# Altium footprint library DAQ.PcbLib: 37 footprints (part 1 of 3)
Each footprint in its own frame and in the unit in brackets; x right, y up, seen from the top. Pads: shape width x height; smd on the part's side, far side on the other; paste and mask are expansions set on the pad; w line width, h text height; cw(c..) or ccw(c..) is an arc to the next point about the centre after c.
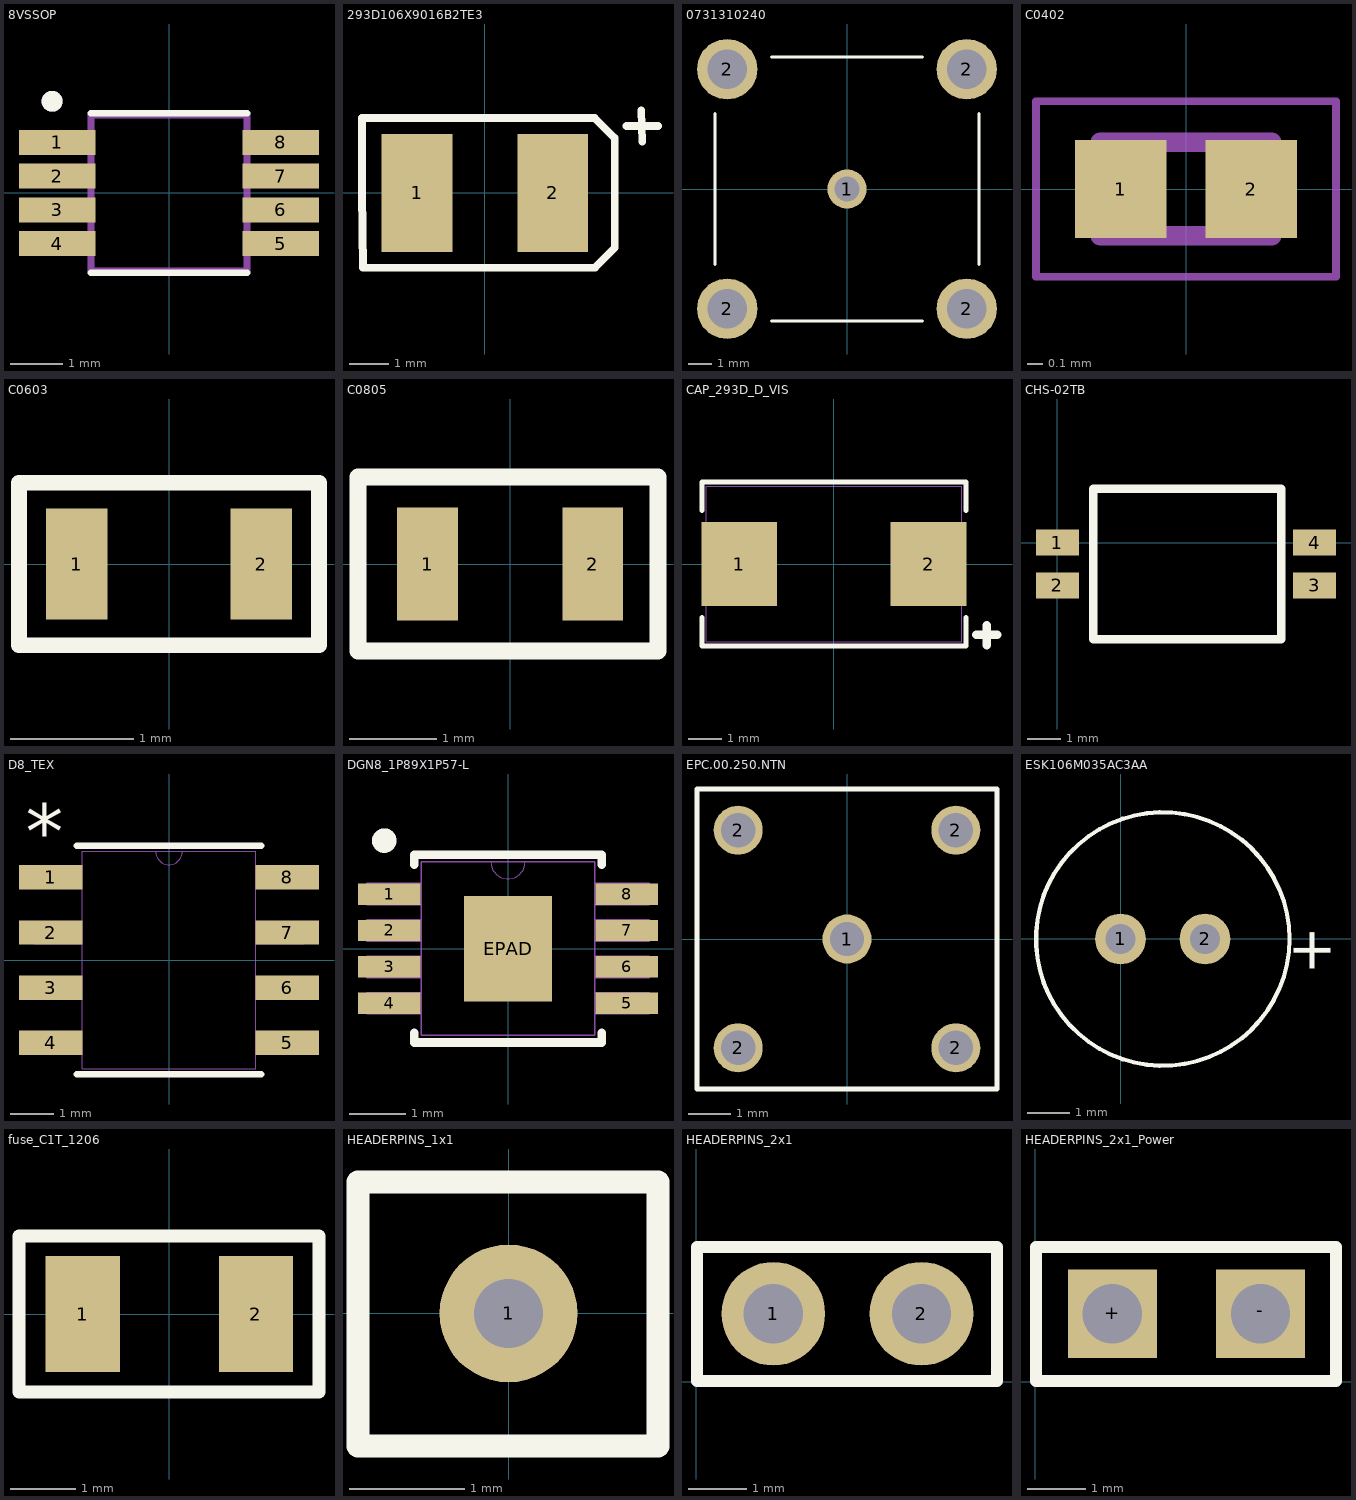
[diagram p0: the footprints below, top view; thin cyan lines are the x and y axes]

## 8VSSOP [mm]
pads (8):
  rect 1.47x0.48 smd: 1(-2.15,0.975) 2(-2.15,0.325) 3(-2.15,-0.325) 4(-2.15,-0.975) 5(2.15,-0.975) 6(2.15,-0.325) 7(2.15,0.325) 8(2.15,0.975)
Top Overlay:
  circle w0.2: c-2.25,1.763 r0.1
  lines w0.127: -1.5,-1.535 1.5,-1.535 ; -1.5,1.535 1.5,1.535
Mechanical 4:
  circle w0.2: c-2.25,1.763 r0.1
  circle w0.2: c-2.25,1.763 r0.1
  lines w0.127: -1.5,-1.5 -1.5,1.5 ; -1.5,-1.5 1.5,-1.5 ; -1.5,-1.5 -1.5,1.5 ; -1.5,-1.5 1.5,-1.5 ; -1.5,1.5 1.5,1.5 ; -1.5,1.5 1.5,1.5 ; 1.5,-1.5 1.5,1.5 ; 1.5,-1.5 1.5,1.5

## 293D106X9016B2TE3 [mm]
pads (2):
  rect 1.8x3 smd: 1(-1.725,0) 2(1.725,0)
Top Overlay:
  lines w0.2: -3.125,1.9 -3.125,0 -3.1,-1.9 2.8,-1.9 ; -3.1,1.9 2.792,1.9 3.3,1.392 3.3,-1.392 2.792,-1.9 ; 3.6,1.7 4.4,1.7 ; 3.975,2.1 4,1.3
3D body "CAP_3_5X2_8X1_9.step": height 2.13, standoff 0, extent -1.842,-1.499 1.842,1.499

## 0731310240 [mil] "CONN BNC RCPT R/A 50 OHM PCB"
pads (5):
  round 65 hole 41: 1(0,0)
  round 100 hole 65: 2(-198,-198) 2(-198,198) 2(198,-198) 2(198,198)
Top Overlay:
  lines w5: -218,-125 -218,125 ; -125,-218 125,-218 ; -125,218 125,218 ; 218,-125 218,125
3D body "731310240.stp": height 733.64, standoff -156.98, extent -225,-218.11 659.25,218.11

## C0402 [mm]
pads (2):
  rect 0.59x0.63 smd: 1(-0.42,0) 2(0.42,0)
Mechanical 4:
  lines w0.127: -0.55,-0.3 -0.55,0.3 ; -0.55,-0.3 0.55,-0.3 ; -0.55,-0.3 -0.55,0.3 ; -0.55,-0.3 0.55,-0.3 ; -0.55,0.3 0.55,0.3 ; -0.55,0.3 0.55,0.3 ; 0.55,-0.3 0.55,0.3 ; 0.55,-0.3 0.55,0.3
Mechanical 16:
  lines w0.05: -0.965,-0.565 -0.965,0.565 0.965,0.565 0.965,-0.565 -0.965,-0.565
3D body "C0402.STEP": height 0.51, standoff 0.01, extent -0.5,-0.281 0.5,0.279

## C0603 [mm]
pads (2):
  rect 0.5x0.9 smd: 1(-0.75,0) 2(0.75,0)
Top Overlay:
  lines w0.127: -1.219,-0.66 1.219,-0.66 1.219,0.66 -1.219,0.66 -1.219,-0.028 -1.219,-0.66
3D body "C0603.step": height 0.81, standoff 0.01, extent -0.8,-0.4 0.8,0.4

## C0805 [mm]
pads (2):
  rect 0.7x1.3 smd: 1(-0.95,0) 2(0.95,0)
Top Overlay:
  lines w0.2: -1.75,-1 -1.75,0 -1.75,1 1.7,1 1.7,-1 -1.75,-1
3D body "C0805.step": height 0.61, standoff 0.01, extent -1,-0.625 1,0.625

## CAP_293D_D_VIS [mil]
pads (2):
  rect 89x99 smd paste+0 mask+0: 1(-111,0) 2(111,0)
Top Overlay:
  lines w6: -154.5,-62.6 -154.5,-96 154.5,-96 154.5,-62.6 ; -154.5,62.6 -154.5,96 154.5,96 154.5,62.6
  lines w10: 167,-83 191,-83 ; 179,-95 179,-72
Mechanical 13:
  lines w1: -149.5,-91 149.5,-91 149.5,91 -149.5,91 -149.5,-91
3D body "CAP_293D_D_VIS.step": height 122.01, standoff 0, extent -149.49,-90.99 149.49,90.99

## CHS-02TB [mm]
pads (4):
  rect 1.27x0.76 smd: 1(0,0) 2(0,-1.27) 3(7.62,-1.27) 4(7.62,0)
Top Overlay:
  lines w0.254: 1.067,-2.87 1.067,1.6 5.093,1.6 6.629,1.6 6.629,-2.87 1.067,-2.87
3D body "CHS-02TB.stp": height 2.53, standoff 0.01, extent -0.241,-2.685 7.759,1.415

## D8_TEX [mil]
pads (8):
  rect 57.5x22 smd paste+0 mask+0: 1(-107.25,75) 2(-107.25,25) 3(-107.25,-25) 4(-107.25,-75) 5(107.25,-75) 6(107.25,-25) 7(107.25,25) 8(107.25,75)
Top Overlay:
  lines w6: -83.5,-103.5 83.5,-103.5 ; -83.5,103.5 83.5,103.5
  text "*" at -129.75,92 h50
Mechanical 13:
  lines w0: -12,98.5 ccw(c0,98.5) 12,98.5
  lines w1: -122,-85 -78.5,-85 -78.5,-65 -122,-65 -122,-85 ; -122,-35 -78.5,-35 -78.5,-15 -122,-15 -122,-35 ; -122,15 -78.5,15 -78.5,35 -122,35 -122,15 ; -122,65 -78.5,65 -78.5,85 -122,85 -122,65 ; -78.5,-98.5 -78.5,98.5 78.5,98.5 78.5,-98.5 -78.5,-98.5 ; 78.5,-85 122,-85 122,-65 78.5,-65 78.5,-85 ; 78.5,-35 122,-35 122,-15 78.5,-15 78.5,-35 ; 78.5,15 122,15 122,35 78.5,35 78.5,15 ; 78.5,65 122,65 122,85 78.5,85 78.5,65
  text "*" at -76,45.5 h50
3D body "D0008A.stp": height 64, standoff 0, extent -118.56,-96.5 118.56,96.5

## DGN8_1P89X1P57-L [mil]
pads (9):
  rect 44x15 smd paste+0 mask+0: 1(-83.5,38.39) 2(-83.5,12.8) 3(-83.5,-12.8) 4(-83.5,-38.39) 5(83.5,-38.39) 6(83.5,-12.8) 7(83.5,12.8) 8(83.5,38.39)
  rect 61.81x74.41 smd paste-36.7 mask+0: EPAD(0,0)
Top Overlay:
  circle w10: c-87,76 r3.61
  lines w6: -66,-58.99 -66,-66 66,-66 66,-58.99 ; -66,58.99 -66,66 66,66 66,58.99
Top Paste:
  region: 30.91,37.2 -30.91,37.2 -30.91,-37.2 30.91,-37.2
Mechanical 13:
  lines w0: -12,61 ccw(c0,61) 12,61
  lines w1: -99.5,-45.89 -99.5,-30.89 -61,-30.89 -61,-45.89 -99.5,-45.89 ; -99.5,-20.3 -99.5,-5.3 -61,-5.3 -61,-20.3 -99.5,-20.3 ; -99.5,5.3 -99.5,20.3 -61,20.3 -61,5.3 -99.5,5.3 ; -99.5,30.89 -99.5,45.89 -61,45.89 -61,30.89 -99.5,30.89 ; -61,-61 61,-61 61,61 -61,61 -61,-61 ; 61,-45.89 61,-30.89 99.5,-30.89 99.5,-45.89 61,-45.89 ; 61,-20.3 61,-5.3 99.5,-5.3 99.5,-20.3 61,-20.3 ; 61,5.3 61,20.3 99.5,20.3 99.5,5.3 61,5.3 ; 61,30.89 61,45.89 99.5,45.89 99.5,30.89 61,30.89
  text "*" at -58.5,8 h50
3D body: height 10, standoff 0, extent 0,0 10,10
3D body "DGN8_1P89X1P57-M.step": height 45.62, standoff 0.5, extent -98.49,-60.97 100.49,61

## EPC.00.250.NTN [mil] "NIM-CAMAC CD/N 549 Connector Receptacle, Female Socket 50Ohm Through Hole Solder"
pads (5):
  round 45 hole 31.5: 1(0,0) 2(-100,-100) 2(-100,100) 2(100,-100) 2(100,100)
Top Overlay:
  lines w5: -137.8,-137.8 -137.8,0 -137.8,137.8 137.8,137.8 137.8,-137.8 -137.8,-137.8
3D body "EPA.00.250.NTN.STEP": height 551.68, standoff -117.61, extent -137.8,-137.79 137.79,137.8

## ESK106M035AC3AA [mm]
pads (2):
  round 1.2 hole 0.7: 1(0,0) 2(2,0)
Top Overlay:
  circle w0.1: c1,0 r3
  text "+" at 4.1,0.3 h1
3D body "ESK106M035AC3AA.step": height 12.52, standoff -19.99, extent -1.75,-2.766 3.75,2.75

## fuse_C1T_1206 [mm]
pads (2):
  rect 1.14x1.78 smd: 1(-1.33,0) 2(1.33,0)
Top Overlay:
  lines w0.2: -2.31,-1.2 2.3,-1.2 2.3,1.2 -2.31,1.2 -2.31,0 -2.31,-1.2
3D body "F1206.step": height 1.11, standoff 0.01, extent -1.51,-0.801 1.51,0.801

## HEADERPINS_1x1 [mm]
pads (1):
  round 1.2 hole 0.6: 1(0,0)
Top Overlay:
  lines w0.2: -1.309,-1.155 1.3,-1.155 1.3,1.145 -1.309,1.145 -1.309,-1.155

## HEADERPINS_2x1 [mil]
pads (2):
  round 70 hole 40: 1(52,46) 2(152,46)
Top Overlay:
  lines w7.87: 0.46,0.54 0.46,91.09 203,91.09 203,0.54 0.46,0.54

## HEADERPINS_2x1_Power [mil]
pads (2):
  rect 60x60 hole 40: +(52,46) -(152,46)
Top Overlay:
  lines w7.87: 0.46,0.54 203,0.54 203,91.09 0.46,91.09 0.46,0.54